# Altium schematic symbol library ICM7555CBAZ.SchLib: 1 symbol
Pins are listed as number, name and electrical type; pins without a type are passive.

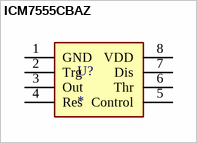
[diagram p0: symbol ICM7555CBAZ]

## ICM7555CBAZ
designator U?
Timers & Support Products GEN PURPSE CMOS TIMR COM; MP: USB-A1VSB6; MF: On Shore; Package: None; Price: None; Value: *; SnapEDA_Link: https://www.snapeda.com/parts/USB-A1VSB6/On%20Shore%20Technology%20Inc./view-part/481020/?ref=snap; Availability: Unavailable
footprint ICM7555CBAZ (SOIC, 8-Leads, Body 4.90x3.90mm, Pitch 1.27mm, IPC Medium Density)
pins: 1 GND, 2 Trg, 3 Out, 4 Res, 5 Control, 6 Thr, 7 Dis, 8 VDD